# Altium schematic symbol library mcu_pic.SchLib: 1 symbol
Pins are listed as number, name and electrical type; pins without a type are passive.

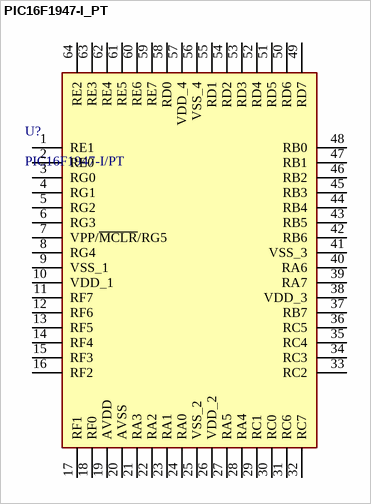
[diagram p0: symbol PIC16F1947-I_PT]

## PIC16F1947-I_PT
designator U?, comment PIC16F1947-I/PT
Integrated Circuit; Manufacturer_Name: Microchip; Datasheet Link: https://componentsearchengine.com//PIC16F1947-I_PT.pdf; Height: 1.2mm; Mouser2 Part Number: 579-PIC16F1947-I/PT; Mouser2 Price/Stock: https://www.mouser.com/Search/Refine.aspx?Keyword=579-PIC16F1947-I%2FPT; Manufacturer_Part_Number: PIC16F1947-I/PT
footprint QFP50P1200X1200X120-64N
pins: 1 RE1, 2 RE0, 3 RG0, 4 RG1, 5 RG2, 6 RG3, 7 VPP/~{MCLR}/RG5, 8 RG4, 9 VSS_1, 10 VDD_1, 11 RF7, 12 RF6, 13 RF5, 14 RF4, 15 RF3, 16 RF2, 17 RF1, 18 RF0, 19 AVDD, 20 AVSS, 21 RA3, 22 RA2, 23 RA1, 24 RA0, 25 VSS_2, 26 VDD_2, 27 RA5, 28 RA4, 29 RC1, 30 RC0, 31 RC6, 32 RC7, 33 RC2, 34 RC3, 35 RC4, 36 RC5, 37 RB7, 38 VDD_3, 39 RA7, 40 RA6, 41 VSS_3, 42 RB6, 43 RB5, 44 RB4, 45 RB3, 46 RB2, 47 RB1, 48 RB0, 49 RD7, 50 RD6, 51 RD5, 52 RD4, 53 RD3, 54 RD2, 55 RD1, 56 VSS_4, 57 VDD_4, 58 RD0, 59 RE7, 60 RE6, 61 RE5, 62 RE4, 63 RE3, 64 RE2